# Altium integrated library Torch-BusinessCard.IntLib: 9 symbols
Pins are listed as number, name and electrical type; pins without a type are passive.

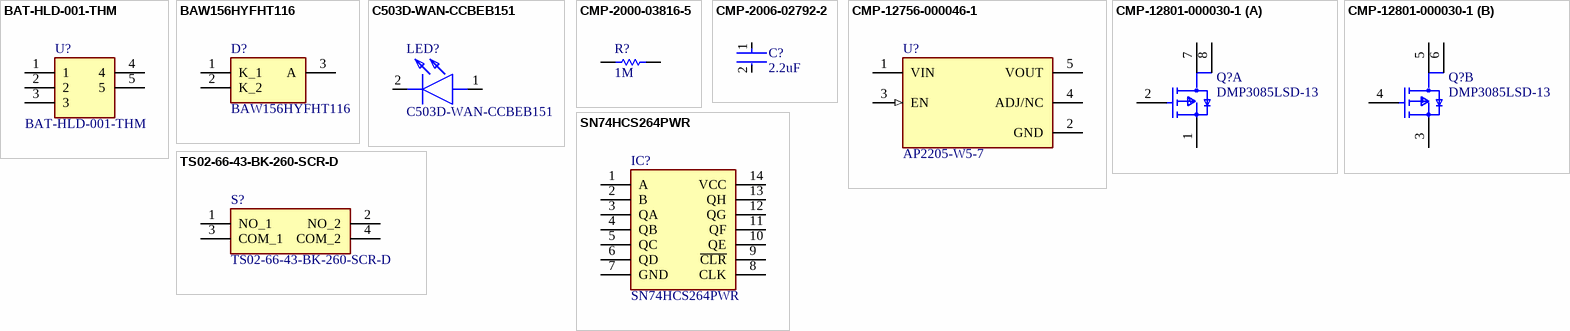
[diagram p0: symbols BAT-HLD-001-THM to TS02-66-43-BK-260-SCR-D]

## BAT-HLD-001-THM
designator U?
Undefined or Miscellaneous; Manufacturer_Name: Linx Technologies; Datasheet Link: http://www.mouser.com/datasheet/2/238/BAT-HLD-001-THM Diagram-1175214.pdf; Height: 4.2mm; Manufacturer_Part_Number: BAT-HLD-001-THM; Mouser Part Number: 712-BAT-HLD-001-THM; Mouser Price/Stock: https://www.mouser.co.uk/ProductDetail/Linx-Technologies/BAT-HLD-001-THM?qs=Z0V%2FpEl%252BOGcluj3h2QTrDw%3D%3D
footprint BATHLD001THM
pins: 1, 2, 3, 4, 5

## BAW156HYFHT116
designator D?
Diode; Manufacturer_Name: ROHM Semiconductor; Datasheet Link: https://fscdn.rohm.com/en/products/databook/datasheet/discrete/diode/switching/baw156hyfht116-e.pdf; Height: 1.15mm; Manufacturer_Part_Number: BAW156HYFHT116
footprint SOT95P240X115-3N
pins: 1 K_1, 2 K_2, 3 A

## C503D-WAN-CCBEB151
designator LED?
LED; Manufacturer_Name: Wolfspeed; Datasheet Link: https://www.cree.com/led-components/media/documents/C503D-WAN-935.pdf; Height: 10.1mm; Manufacturer_Part_Number: C503D-WAN-CCBEB151; Mouser Part Number: 941-C503DWANCCBEB151; Mouser Price/Stock: https://www.mouser.co.uk/ProductDetail/Cree-LED/C503D-WAN-CCbEb151?qs=1sbE9T7hb3ZR2lckThU%2FFA%3D%3D; Arrow Part Number: C503D-WAN-CCBEB151; Arrow Price/Stock: https://www.arrow.com/en/products/c503d-wan-ccbeb151/cree
footprint C503DWANCCBEB151
pins: 1 A, 2 K

## CMP-2000-03816-5
designator R?, comment 1M
Chip Resistor, 0 Ohm, Jumper, 100 mW, -55 to 155 degC, 0603 (1608 Metric), RoHS, Tape and Reel; Manufacturer: Vishay Semiconductor; Manufacturer: Vishay; Manufacturer Part Number: CRCW0603-0000Z0EA; Voltage Rating: 75 V; Package Quantity: 5000; DatasheetVersion: 06/2012; Min Operating Temperature: -55 degC; ComponentLink1URL: http://www.vishay.com/; Mounting Technology: Surface Mount; Height: 0.45 mm; ComponentLink1Description: Manufacturer URL; REACH SVHC: Unknown; PackageReference: 0603; Packaging: Tape and Reel; Max Operating Temperature: 155 degC; Mount: Surface Mount; ComponentLink2Description: Datasheet; PackageDescription: 2-Pin Surface Mount Device, Body 1.575 x 0.85 mm; Length: 1.55 mm; ComponentLink2URL: http://www.vishay.com/docs/20035/dcrcwe3.pdf; Pins: 2; RoHSCompliant: true
footprint RESC1609X50X30NL8T20 (Chip Resistor, 2-Leads, Body 1.65x0.95mm, IPC Medium Density)
footprint RESC1609X50X30ML8T20 (Chip Resistor, 2-Leads, Body 1.65x0.95mm, IPC Low Density)
footprint RESC1609X50X30LL8T20 (Chip Resistor, 2-Leads, Body 1.65x0.95mm, IPC High Density)
pins: 1, 2

## CMP-2006-02792-2
designator C?, comment 2.2uF
Chip Multilayer Ceramic Capacitors for General Purpose, 0603, 10uF, X5R, 15%, 20%, 6.3V; Manufacturer: Murata; Manufacturer Part Number: GRM188R60J106ME47D; Packaging: Tape and Reel; Voltage Rating (DC): 6.3V; Width: 0.031inch; Termination: SMD/SMT; Dielectric: X5R; Package Quantity: 4000; Voltage Rating: 6.3V; Capacitance: 10uF; Case/Package: 0603; Min Operating Temperature: -55°C; Voltage: 6.3V; Length: 1.6mm; Thickness: 0.035inch; Lead Free: Lead Free; Depth: 0.8mm; Case Code (Imperial): 0603; Max Operating Temperature: 85°C; Material: Ceramic; Height: 0.8mm; Tolerance: 20%; Mount: Surface Mount; REACH SVHC: No SVHC; Radiation Hardening: No; Case Code (Metric): 1608
footprint FP-GRM188-0_1-e0_2_0_55-IPC_A
footprint FP-GRM188-0_1-e0_2_0_55-IPC_C
footprint FP-GRM188-0_1-e0_2_0_55-MFG
footprint FP-GRM188-0_1-e0_2_0_55-IPC_B
pins: 1, 2

## CMP-12756-000046-1
designator U?, comment AP2205-W5-7
IC REG LIN POS ADJ 250MA SOT25; Manufacturer: Diodes; Manufacturer Part Number: AP2205-W5-7
footprint FP-SOT25-IPC_B
footprint FP-SOT25-MFG
footprint FP-SOT25-IPC_A
footprint FP-SOT25-IPC_C
pins: 1 VIN (power), 2 GND (power), 3 EN (in), 4 ADJ/NC, 5 VOUT (power)

## CMP-12801-000030-1
designator Q?, comment DMP3085LSD-13
MOSFET 2P-CH 30V 3.9A 8SO; Manufacturer: Diodes Inc.; Manufacturer: Diodes; Max Forward Diode Voltage: -1.2V; Turn Off Delay Time: 31ns; Rthja Max: 107°C/W; Number Of P Channels: 2; Typ Forward Diode Voltage: -0.7V; Gate To Source Voltage: 20V; Threshold Vgs Min: -1V; Depletion Mode: False; Drain To Source Voltage: -30V; Drain To Source Resistance: 50mΩ; Turn On Delay Time: 4.8ns; Pulse Drain Current: -20A; Gate Charge At Vgs: 11nC @ -10V; Input Capacitace At Vds: 563pF @ -25V; Threshold Vgs Max: -3V; Max Junction Temp: +150°C; Standoff Height: 0.1mm; Continuous Drain Current: -3.9A; Power Dissipation: 1.1W; Package: SO-8; ComponentLink2URL: https://www.diodes.com/assets/Datasheets/DMP3085LSD.pdf; Manufacturer Part Number: DMP3085LSD-13; Category: Trans; Device Class L2: Transistors; Lead Free: Yes; Height: 1.7mm; Device Class L3: MOSFETs; Automotive: No; Footprint Url: https://www.diodes.com/assets/Package-Files/SO-8.pdf; Ipc Land Pattern Name: SOIC127P600X160-8; ComponentLink2Description: Datasheet; Temperature Range High: +150°C; Number Of Channels: 2; Temperature Range Low: -55°C; RoHS: TRUE; Digikey Description: MOSFET 2P-CH 30V 3.9A 8SO; Temperature: -55°C to +150°C; Mouser Description: MOSFET P-Ch ENH FET -30V 70mOhm -10V -3.9A; Octopart: https://octopart.com/dmp3085lsd-13-diodes+inc.-29925597; Drain To Source Breakdown Voltage: -30V; Device Class L1: Discrete Semiconductors
footprint FP-SO-8-MFG
footprint FP-SO-8-IPC_C
footprint FP-SO-8-IPC_B
footprint FP-SO-8-IPC_A
part A pins: 1 S1, 2 G1, 7 D1, 8 D1
part B pins: 3 S2, 4 G2, 5 D2, 6 D2

## SN74HCS264PWR
designator IC?
Integrated Circuit; Manufacturer_Name: Texas Instruments; Datasheet Link: https://www.ti.com/lit/gpn/SN74HCS264; Height: 1.2mm; Manufacturer_Part_Number: SN74HCS264PWR; Mouser Part Number: 595-SN74HCS264PWR; Mouser Price/Stock: https://www.mouser.co.uk/ProductDetail/Texas-Instruments/SN74HCS264PWR?qs=DPoM0jnrROVriykd1NESjA%3D%3D; Arrow Part Number: SN74HCS264PWR; Arrow Price/Stock: https://www.arrow.com/en/products/sn74hcs264pwr/texas-instruments?region=nac
footprint SOP65P640X120-14N
pins: 1 A, 2 B, 3 QA, 4 QB, 5 QC, 6 QD, 7 GND, 8 CLK, 9 ~{CLR}, 10 QE, 11 QF, 12 QG, 13 QH, 14 VCC

## TS02-66-43-BK-260-SCR-D
designator S?
Switch; Manufacturer_Name: CUI Inc.; Datasheet Link: https://www.arrow.com/en/products/ts02-66-43-bk-260-scr-d/cui-devices?region=nac; Height: 4.5mm; Manufacturer_Part_Number: TS02-66-43-BK-260-SCR-D; Mouser Part Number: 179-TS026643BK260SCR; Mouser Price/Stock: https://www.mouser.co.uk/ProductDetail/CUI-Devices/TS02-66-43-BK-260-SCR-D?qs=A6eO%252BMLsxmStfetPfb1PWw%3D%3D; Arrow Part Number: TS02-66-43-BK-260-SCR-D; Arrow Price/Stock: https://www.arrow.com/en/products/ts02-66-43-bk-260-scr-d/cui-devices?region=nac
footprint TS026643BK260SCRD
pins: 1 NO_1, 2 NO_2, 3 COM_1, 4 COM_2